# Altium footprint library 220to12.PcbLib: 1 footprints
Each footprint in its own frame and in the unit in brackets; x right, y up, seen from the top. Pads: shape width x height; smd on the part's side, far side on the other; paste and mask are expansions set on the pad; w line width, h text height; cw(c..) or ccw(c..) is an arc to the next point about the centre after c.
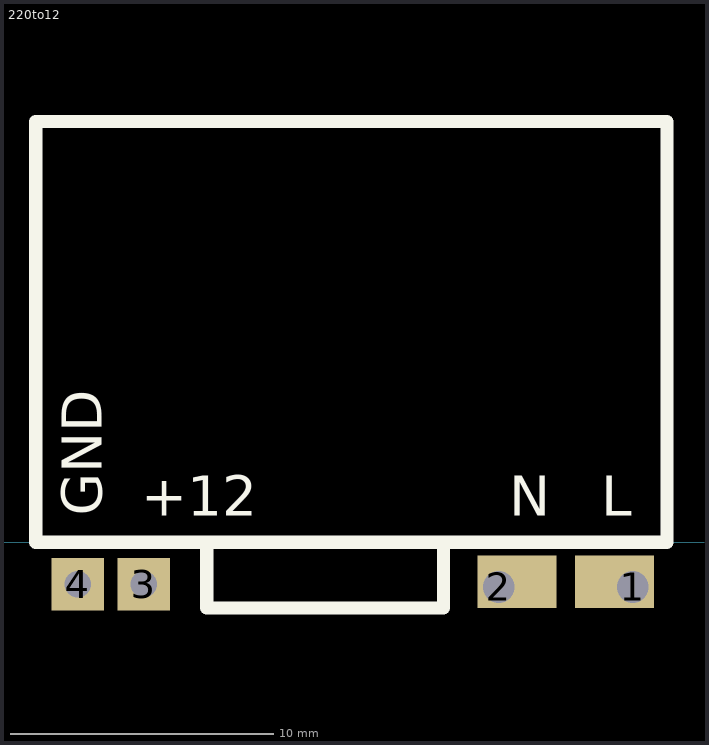
[diagram p0: the footprint, top view; thin cyan lines are the x and y axes]

## 220to12 [mm]
pads (4):
  rect 3x2 hole 1.2 copper offset -0.7,0.2: 1(24.7,-1.7)
  rect 3x2 hole 1.2 copper offset 0.7,0.2: 2(19.6,-1.7)
  rect 2x2 hole 1: 3(6.1,-1.6) 4(3.6,-1.6)
Top Overlay:
  lines w0.5: 8.5,0 8.5,-2.5 17.5,-2.5 17.5,0 ; 2,0 2,16 26,16 26,0 2,0
  text "L" at 23.5,1 h1.52
  text "N" at 20,1 h1.52
  text "+12" at 6,1 h1.52
  text "GND" at 4.5,1 h1.52